# Altium schematic symbol library chips.SchLib: 47 symbols
Pins are listed as number, name and electrical type; pins without a type are passive.

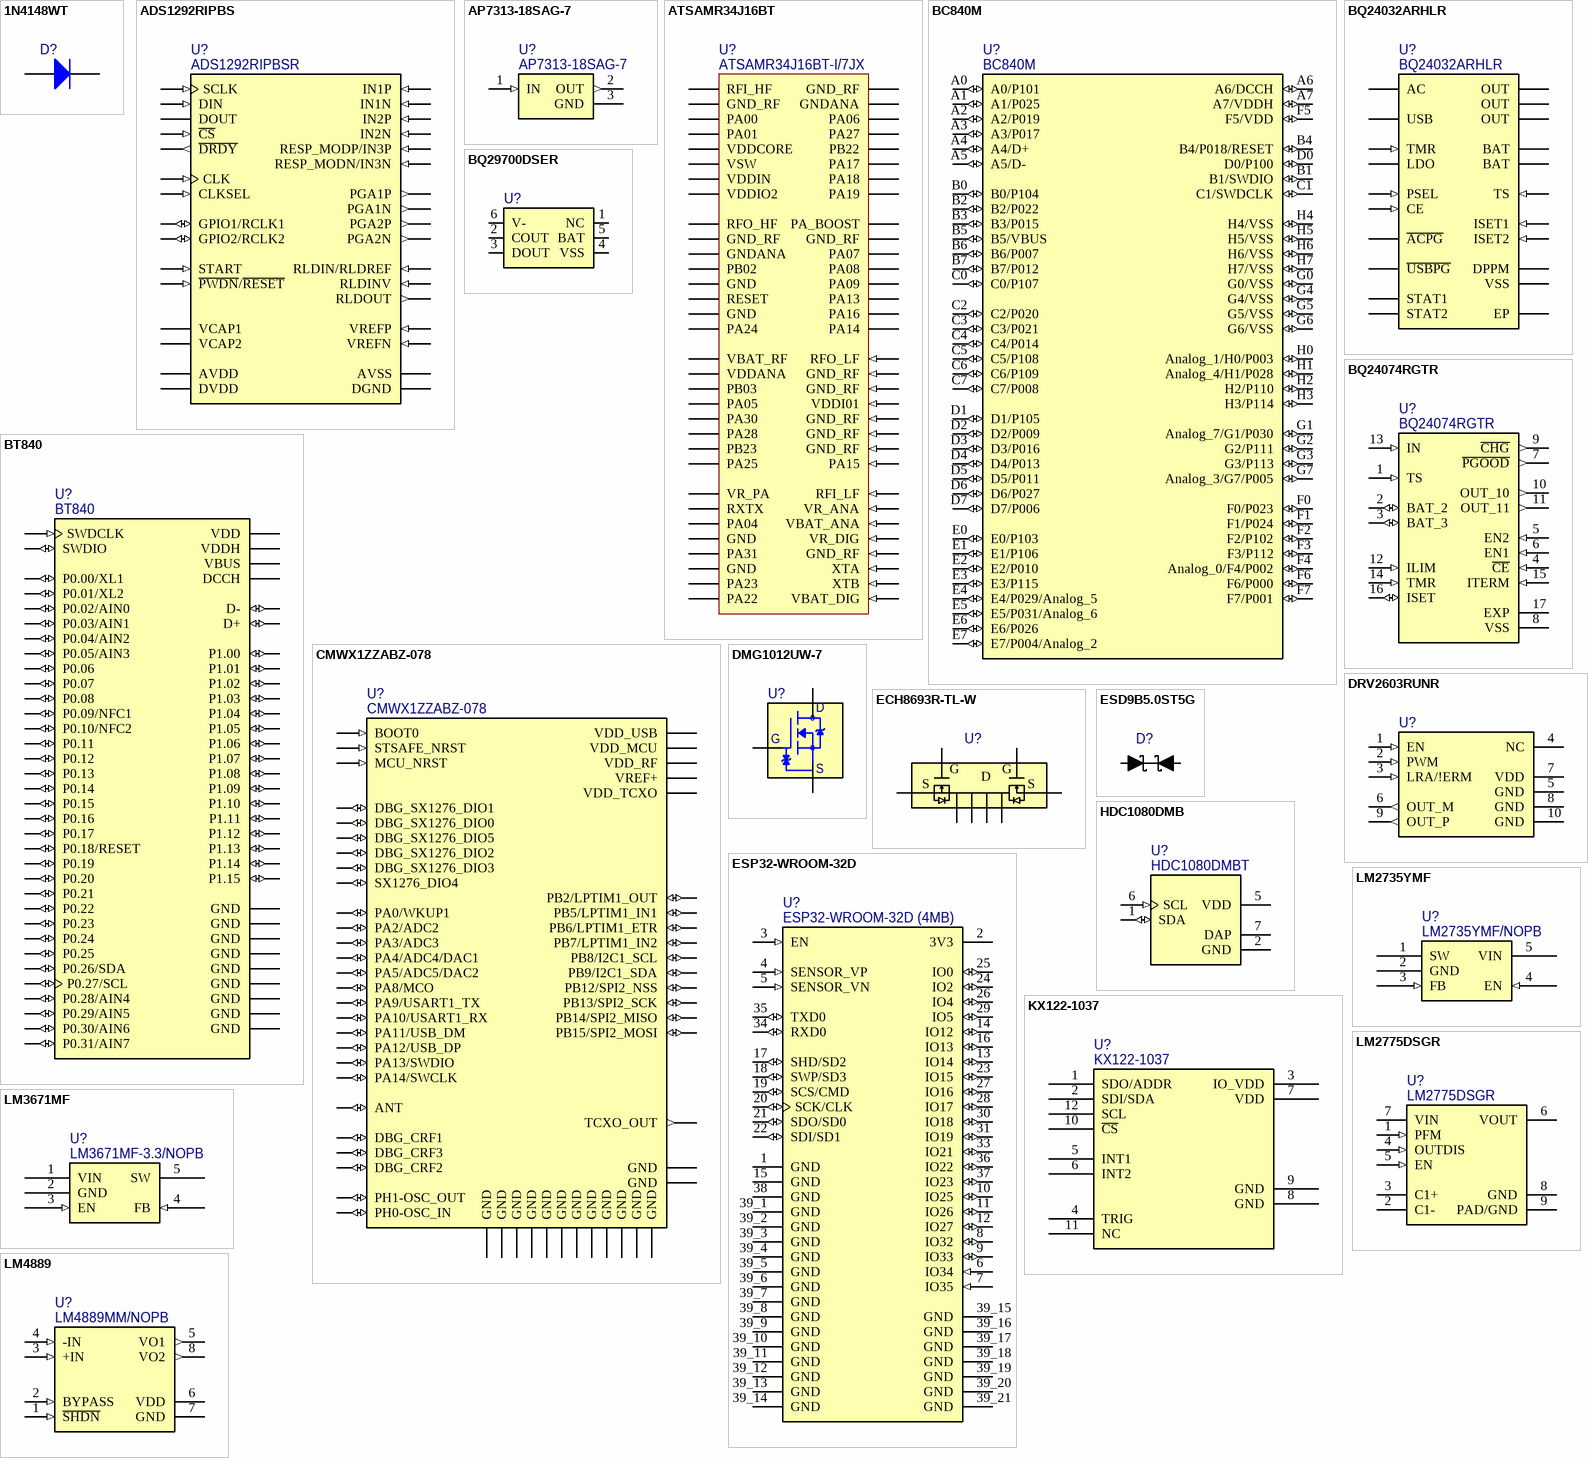
[diagram p0: symbols 1N4148WT to LM4889]

## 1N4148WT
designator D?
DIODE GEN PURP 100V 150MA SOD123; Manufacturer: Fairchild Semiconductor; Manufacturer Part Number: 1N4148W-TP; zz Package: SOD-523F-2; ComponentLink1Description: Manufacturer URL; ComponentLink2URL: http://www.fairchildsemi.com/ds/1N/1N4148WT.pdf; ComponentLink2Description: Datasheet; ComponentLink1URL: http://www.fairchildsemi.com/; Link: https://www.digikey.co.uk/product-detail/en/micro-commercial-co/1N4148W-TP/1N4148WTPMSTR-ND/717196; Supplier Part Number: 1N4148WTPMSTR-ND; Supplier: Digikey; Price 1 Unit USD: 0.14; Price 1000+ Units USD: 0.24
footprint 1n4148wt (SMD, 2-Leads, Body 1.2x0.8mm, Height 0.7mm)
pins: 1 K, 2 A

## ADS1292RIPBS
designator U?  Manufacturer Part Number: ADS1292RIPBSR
AFE 2 CHAN 24BIT 32TQFP / 2-Channel, 24-Bit ADC with Integrated Respiration Impedance and ECG Front End, -40 to 85 degC, 32-pin QFP (PBS32), Green (RoHS & no Sb/Br); Manufacturer: Texas Instruments; zz Package: 32-TQFP; zz Power Supply Rating: 1.7V to 3.6V; ComponentLink1Description: Manufacturer URL; ComponentLink1URL: http://www.ti.com/; ComponentLink3URL: http://www.ti.com/lit/ml/mpqf027a/mpqf027a.pdf; ComponentLink2Description: Datasheet; ComponentLink2URL: http://www.ti.com/general/docs/lit/getliterature.tsp?genericPartNumber=ADS1292R&fileType=pdf; ComponentLink3Description: Package Specification; Supplier Part Number: 296-30389-1-ND; Supplier: Digikey; Price 1000+ Units USD: 5.76; Price 1 Unit USD: 10.68; Link: https://www.digikey.com/product-detail/en/texas-instruments/ADS1292RIPBSR/296-30389-1-ND/3188671
footprint ADS1292R (QFP, 32-Leads, Body 5x5mm, Pitch 0.5mm, IPC High Density)
pins: 1 PGA1N (out) "PGA1 inverting output", 2 PGA1P (out) "PGA1 noninverting output", 3 IN1N (in) "Differential analog negative input 1", 4 IN1P (in) "Differential analog positive input 1", 5 IN2N (in) "Differential analog negative input 2", 6 IN2P (in) "Differential analog positive input 2", 7 PGA2N (out) "PGA2 inverting output", 8 PGA2P (out) "PGA2 noninverting output", 9 VREFP (in) "Positive reference voltage", 10 VREFN (in) "Negative reference voltage; must be connected to AVSS", 11 VCAP1 "Analog bypass capacitor", 12 AVDD (power) "Analog supply", 13 AVSS (power) "Analog ground", 14 CLKSEL (in) "Master clock select", 15 ~{PWDN}/~{RESET} (in) "Power-down or system reset; active low", 16 START (in) "Start conversion", 17 CLK (in) "Master clock input", 18 ~{CS} (in) "Chip select", 19 DIN (in) "SPI data in", 20 SCLK (in) "SPI clock", 21 DOUT (hiz) "SPI data out", 22 ~{DRDY} (out) "Data ready; active low", 23 DVDD (power) "Digital power supply", 24 DGND (power) "Digital ground", 25 GPIO2/RCLK2 (io) "General-purpose I/O 2 or resp clock 2 (ADS1292R)", 26 GPIO1/RCLK1 (io) "General-purpose I/O 1 or resp clock 1 (ADS1292R)", 27 VCAP2 "Analog bypass capacitor", 28 RLDINV (in) "Right leg drive inverting input; connect to AVDD if not used", 29 RLDIN/RLDREF (in) "Right leg drive input to MUX or RLD amplifier noninverting input; connect to AVDD if not used", 30 RLDOUT (out) "Right leg drive output", 31 RESP_MODP/IN3P (in) "P-side respiration excitation signal for respiration or auxiliary input 3P", 32 RESP_MODN/IN3N (in) "N-side respiration excitation signal for respiration or auxiliary input 3N"

## AP7313-18SAG-7
designator U?  Manufacturer Part Number: AP7313-18SAG-7
IC REG LINEAR 1.8V 150MA SOT23-3; Manufacturer: Diodes Incorporated; ComponentLink1Description: Manufacturer URL; ComponentLink2Description: Datasheet; Link: https://www.digikey.com/en/products/detail/diodes-incorporated/AP7313-18SAG-7/2270804
footprint AP7313-18SAG-7 (IC REG LINEAR 1.8V 150MA SOT23-3)
pins: 1 IN (in), 2 OUT (out), 3 GND (power)

## ATSAMR34J16BT
designator U?  Manufacturer Part Number: ATSAMR34J16BT-I/7JX
RF TXRX+MCU 802.15.4 64TFBGA; Manufacturer: Microchip Technology; zz Package: 64-TFBGA; ComponentLink1Description: Manufacturer URL; ComponentLink1URL: http://www.ti.com/; ComponentLink3URL: http://www.ti.com/lit/ml/mpqf027a/mpqf027a.pdf; ComponentLink2Description: Datasheet; ComponentLink2URL: http://www.ti.com/general/docs/lit/getliterature.tsp?genericPartNumber=ADS1292R&fileType=pdf; ComponentLink3Description: Package Specification; Supplier Part Number: ATSAMR34J16BT-I/7JXCT-ND; Supplier: Digikey; Price 1000+ Units USD: 5.01; Price 1 Unit USD: 5.15; Link: https://www.digikey.com/product-detail/en/microchip-technology/ATSAMR34J16BT-I-7JX/ATSAMR34J16BT-I-7JXCT-ND/9739172
footprint ATSAMR34J16BT (IC RF TXRX+MCU 802.15.4 64TFBGA)
pins: A1 RFI_HF, A2 GND_RF, A3 PA00, A4 PA01, A5 VDDCORE, A6 VSW, A7 VDDIN, A8 VDDIO2, B1 RFO_HF, B2 GND_RF, B3 GNDANA, B4 PB02, B5 GND, B6 RESET, B7 GND, B8 PA24, C1 VBAT_RF, C2 VDDANA, C3 PB03, C4 PA05, C5 PA30, C6 PA28, C7 PB23, C8 PA25, D1 VR_PA, D2 RXTX, D3 PA04, D4 GND, D5 PA31, D6 GND, D7 PA23, D8 PA22, E1 GND_RF, E2 GNDANA, E3 PA06, E4 PA27, E5 PB22, E6 PA17, E7 PA18, E8 PA19, F1 PA_BOOST, F2 GND_RF, F3 PA07, F4 PA08, F5 PA09, F6 PA13, F7 PA16, F8 PA14, G1 RFO_LF (in), G2 GND_RF (in), G3 GND_RF (in), G4 VDDI01 (in), G5 GND_RF (in), G6 GND_RF (in), G7 GND_RF (in), G8 PA15 (in), H1 RFI_LF (in), H2 VR_ANA (in), H3 VBAT_ANA (in), H4 VR_DIG (in), H5 GND_RF (in), H6 XTA (in), H7 XTB (in), H8 VBAT_DIG (in)

## BC840M
designator U?  Manufacturer Part Number: BC840M
BLUETOOTH MODULE FANSTEL; Link: https://www.fanstel.com/bc840m-compact-nrf52840-module; Manufacturer: Fanstel; Supplier: Fanster; Supplier Part Number: BC840M; Price 1000+ Units USD: 7.96; Price 1 Unit USD: 11.94; zz Datasheet URL: https://static1.squarespace.com/static/561459a2e4b0b39f5cefa12e/t/5caa2b41ec212d909815f277/1554656071073/BlueNor_BC840_datasheets.pdf
footprint BC840M
pins: A0 A0/P101 (io), A1 A1/P025 (io), A2 A2/P019 (io), A3 A3/P017 (io), A4 A4/D+ (io), A5 A5/D- (io), A6 A6/DCCH (io), A7 A7/VDDH (io), B0 B0/P104 (io), B1 B1/SWDIO (io), B2 B2/P022 (io), B3 B3/P015 (io), B4 B4/P018/RESET (io), B5 B5/VBUS (io), B6 B6/P007 (io), B7 B7/P012 (io), C0 C0/P107 (io), C1 C1/SWDCLK (io), C2 C2/P020 (io), C3 C3/P021 (io), C4 C4/P014 (io), C5 C5/P108 (io), C6 C6/P109 (io), C7 C7/P008 (io), D0 D0/P100 (io), D1 D1/P105 (io), D2 D2/P009 (io), D3 D3/P016 (io), D4 D4/P013 (io), D5 D5/P011 (io), D6 D6/P027 (io), D7 D7/P006 (io), E0 E0/P103 (io), E1 E1/P106 (io), E2 E2/P010 (io), E3 E3/P115 (io), E4 E4/P029/Analog_5 (io), E5 E5/P031/Analog_6 (io), E6 E6/P026 (io), E7 E7/P004/Analog_2 (io), F0 F0/P023 (io), F1 F1/P024 (io), F2 F2/P102 (io), F3 F3/P112 (io), F4 Analog_0/F4/P002 (io), F5 F5/VDD (io), F6 F6/P000 (io), F7 F7/P001 (io), G0 G0/VSS (io), G1 Analog_7/G1/P030 (io), G2 G2/P111 (io), G3 G3/P113 (io), G4 G4/VSS (io), G5 G5/VSS (io), G6 G6/VSS (io), G7 Analog_3/G7/P005 (io), H0 Analog_1/H0/P003 (io), H1 Analog_4/H1/P028 (io), H2 H2/P110 (io), H3 H3/P114 (io), H4 H4/VSS (io), H5 H5/VSS (io), H6 H6/VSS (io), H7 H7/VSS (io)

## BQ24032ARHLR
designator U?  Manufacturer Part Number: BQ24032ARHLR
BATT LI-ON LINEAR CHRG MGMT 20-QFN / Dual Input Li-Ion Charger with Dynamic Power Path, Output regulated to 4.4 V, Vbat 4.2 V, 4.3 V, -40 to 85 degC, 20-pin QFN (RHL), Green (RoHS & no Sb/Br); Manufacturer: Texas Instruments; zz Power Supply Rating: up to 16V; zz Package: 20-VFQFN; ComponentLink1Description: Datasheet; ComponentLink1URL: http://www.ti.com/general/docs/lit/getliterature.tsp?genericPartNumber=BQ24032A&fileType=pdf; Supplier Part Number: 296-18285-1-ND; Supplier: Digikey; Price 1000+ Units USD: 2.10; Price 1 Unit USD: 4.32; Link: https://www.digikey.com/product-detail/en/texas-instruments/BQ24032ARHLR/296-18285-1-ND/807616
footprint RHL0020A_V (QFN, 20-Leads, Body 4.5x3.5mm, Pitch 0.5mm, Thermal Pad 3.05x2.05mm, TI Recommended)
pins: 1 LDO (power) "3.3-V LDO regulator", 2 STAT1 (oc) "Charge status output 1 (open-drain)", 3 STAT2 (oc) "Charge status output 2 (open-drain)", 4 AC (power) "Charge input voltage from AC adapter", 5 BAT (power) "Battery input and output.", 6 BAT (power) "Battery input and output.", 7 ISET2 (in) "Charge current set point for USB port. (High = 500 mA, Low = 100 mA)", 8 PSEL (in) "Power source selection input (Low for USB, High for AC)", 9 CE (in) "Chip enable input (active high)", 10 ISET1 (in) "Charge current set point for AC input and precharge and termination set point for both AC and USB", 11 VSS (power) "Ground input (the thermal pad on the underside of the package) There is an internal electrical connection between the exposed thermal pad and VSS pin of the device. The exposed thermal pad must be connected to the same (See Datasheet)", 12 TS (in) "Temperature sense input", 13 DPPM "Dynamic power-path management set point (account for scale factor)", 14 TMR (in) "Timer program input programmed by resistor. Disable fast-charge safety timer and termination by tying TMR to LDO.", 15 OUT (power) "Output terminal to the system", 16 OUT (power) "Output terminal to the system", 17 OUT (power) "Output terminal to the system", 18 ~{ACPG} (oc) "AC power-good status output (open-drain).", 19 ~{USBPG} (oc) "USB power-good status output (open-drain).", 20 USB (power) "USB charge input voltage", 21 EP "Exposed Thermal Pad"

## BQ24074RGTR
designator U?  Manufacturer Part Number: BQ24074RGTR
BATT LI-ION CHARGE MGMT 16-QFN; Manufacturer: Texas Instruments; ComponentLink1Description: Manufacturer URL; ComponentLink2Description: Datasheet; Link: https://www.digikey.com/product-detail/en/texas-instruments/BQ24074RGTR/296-38873-1-ND/5142985; Supplier Part Number: 296-38873-1-ND; Supplier: Digikey; Price 1000+ Units USD: 1.01; Price 1 Unit USD: 2.21
footprint BATT_CHARG_BQ24074RGTR (IC LI-ION CHARGE MGMT 16-QFN)
pins: 1 TS (in), 2 BAT_2 (io), 3 BAT_3 (io), 4 ~{CE} (in), 5 EN2 (in), 6 EN1 (in), 7 ~{PGOOD} (out), 8 VSS (power), 9 ~{CHG} (out), 10 OUT_10 (out), 11 OUT_11 (out), 12 ILIM (in), 13 IN (in), 14 TMR (in), 15 ITERM (in), 16 ISET (io), 17 EXP (power)

## BQ29700DSER
designator U?
BATT LITHIUM BATT PROTECT 6-SON; Manufacturer: Texas Instruments; Manufacturer Part Number: BQ29700DSER; ComponentLink1Description: Manufacturer URL; ComponentLink2Description: Datasheet; Link: https://www.digikey.com/product-detail/en/texas-instruments/BQ29700DSER/296-43985-1-ND/5973209; Supplier Part Number: 296-43985-1-ND; Supplier: Digikey; Price 1000+ Units USD: 0.21; Price 1 Unit USD: 0.56
footprint BATT_PROTEC_BQ29700DSER (IC LITHIUM BATT PROTECT 6-SON)
pins: 1 NC, 2 COUT, 3 DOUT, 4 VSS, 5 BAT, 6 V-

## BT840
designator U?  Manufacturer Part Number: BT840
BLUETOOTH MODULE FANSTEL  BT840; Link: https://www.digikey.com/product-detail/en/fanstel-corp/BT840/1914-1018-1-ND/8323671; Manufacturer: Fanstel; Supplier: Digikey; Supplier Part Number: 1914-1018-1-ND; Price 1000+ Units USD: 6.56; Price 1 Unit USD: 12.06; zz Datasheet URL: http://www.fanstel.com/s/BlueNor_BT840F_datasheets.pdf
footprint BT840 (Bluetooth module nordic)
pins: 1 P0.26/SDA (io), 2 P0.27/SCL (io), 3 P0.00/XL1 (io), 4 P0.01/XL2 (io), 5 P0.02/AIN0 (io), 6 P0.03/AIN1 (io), 7 P0.09/NFC1 (io), 8 P0.10/NFC2 (io), 9 VDD (power), 10 GND (power), 11 P0.11 (io), 12 P1.00 (io), 13 P0.13 (io), 14 P0.18/RESET (io), 15 SWDCLK (in), 16 SWDIO (io), A0 GND (power), A1 P0.28/AIN4 (io), A2 P0.29/AIN5 (io), A3 P0.04/AIN2 (io), A4 P0.05/AIN3 (io), A5 P0.07 (io), A6 P1.08 (io), B0 GND (power), B1 P0.25 (io), B2 P0.30/AIN6 (io), B3 P0.31/AIN7 (io), B4 P0.06 (io), B5 P0.08 (io), B6 P1.03 (io), C0 GND (power), C1 P0.24 (io), C2 P0.22 (io), C3 P0.17 (io), C4 P0.15 (io), C5 P1.02 (io), C6 P1.04 (io), D0 GND (power), D1 P0.23 (io), D2 P0.19 (io), D3 P0.16 (io), D4 P0.14 (io), D5 P1.01 (io), D6 P1.05 (io), E0 P1.07 (io), E1 P0.20 (io), E2 P0.21 (io), E3 P1.09 (io), E4 D+ (io), E5 D- (io), E6 P0.12 (io), F0 GND (power), F1 GND (power), F2 GND (power), F3 GND (power), F4 VDDH (power), F5 DCCH (power), F6 VBUS (power), Z0 P1.11 (io), Z1 P1.12 (io), Z2 P1.13 (io), Z3 P1.14 (io), Z4 P1.15 (io), Z5 P1.10 (io), Z6 P1.06 (io)

## CMWX1ZZABZ-078
designator U?  Manufacturer Part Number: CMWX1ZZABZ-078
LORA MODULE / Murata RF MODULE 860-930MHz 12.5x11.6x1.76mm 3.3Vdc; Link: https://www.digikey.co.uk/product-detail/en/murata-electronics/CMWX1ZZABZ-078/490-16143-1-ND/6834151?utm_source=snapeda&utm_medium=aggregator&utm_campaign=symbol; Manufacturer: Murata; Supplier: Digikey; Supplier Part Number: 490-16143-1-ND; Price 1 Unit USD: 17.82; Price 1000+ Units USD: 10.75
footprint CMWX1ZZABZ-078 (LORA Module Murata)
pins: 1 PA12/USB_DP (io), 2 PA11/USB_DM (io), 3 GND, 4 VDD_USB (power), 5 VDD_MCU (power), 6 VDD_RF (power), 7 GND, 8 DBG_SX1276_DIO2 (io), 9 DBG_SX1276_DIO3 (io), 10 SX1276_DIO4 (io), 11 DBG_SX1276_DIO5 (io), 12 DBG_SX1276_DIO1 (io), 13 DBG_SX1276_DIO0 (io), 14 PB15/SPI2_MOSI (io), 15 PB14/SPI2_MISO (io), 16 PB13/SPI2_SCK (io), 17 PB12/SPI2_NSS (io), 18 PA10/USART1_RX (io), 19 PA9/USART1_TX (io), 20 PA8/MCO (io), 21 PA5/ADC5/DAC2 (io), 22 PA4/ADC4/DAC1 (io), 23 PA3/ADC3 (io), 24 PA2/ADC2 (io), 25 GND, 26 ANT (io), 27 GND, 28 DBG_CRF1 (io), 29 DBG_CRF3 (io), 30 DBG_CRF2 (io), 31 STSAFE_NRST (in), 32 VREF+ (power), 33 PA0/WKUP1 (io), 34 MCU_NRST (in), 35 PB8/I2C1_SCL (io), 36 PB9/I2C1_SDA (io), 37 PB2/LPTIM1_OUT (io), 38 PB7/LPTIM1_IN2 (io), 39 PB6/LPTIM1_ETR (io), 40 PB5/LPTIM1_IN1 (io), 41 PA13/SWDIO (io), 42 PA14/SWCLK (io), 43 BOOT0 (in), 44 GND, 45 PH1-OSC_OUT (io), 46 PH0-OSC_IN (io), 47 TCXO_OUT (out), 48 VDD_TCXO (power), 49 GND, 50 GND, 51 GND, 52 GND, 53 GND, 54 GND, 55 GND, 56 GND, 57 GND

## DMG1012UW-7
designator U?
MOSFET Logi level N-CH 20V 1A SOT323; Manufacturer: Diodes Incorporated; Manufacturer Part Number: DMG1012UW-7; ComponentLink1Description: Manufacturer URL; ComponentLink2Description: Datasheet; Link: https://www.digikey.com/en/products/detail/diodes-incorporated/DMG1012UW-7/2183239; Supplier Part Number: DMG1012UW-7DICT-ND; Supplier: Digikey; Price 1000+ Units USD: 0.05; Price 1 Unit USD: 0.33
footprint MOSFET-DMG1012UW-SOT323 (MOSFET N-CH 20V 1A SOT323)
pins: 1 D, 2 G, 3 S

## DRV2603RUNR
designator U?
MOTOR DRIVER 2.5V-5.2V 10QFN; Manufacturer: Texas Instruments; Manufacturer Part Number: DRV2603RUNR; ComponentLink1Description: Manufacturer URL; ComponentLink2Description: Datasheet; Link: https://www.digikey.com/product-detail/en/texas-instruments/DRV2603RUNR/296-30613-1-ND/3487222; Supplier Part Number: 296-30613-1-ND; Supplier: Digikey; Price 1000+ Units USD: 0.55; Price 1 Unit USD: 1.31
footprint MOT_DRV_DRV2603RUNR (IC MOTOR DRIVER 2.5V-5.2V 10QFN)
pins: 1 EN (in), 2 PWM (in), 3 LRA/!ERM (in), 4 NC (power), 5 GND (power), 6 OUT_M (out), 7 VDD (power), 8 GND (power), 9 OUT_P (out), 10 GND (power)

## ECH8693R-TL-W
designator U?
MOSFET 2N-CH 24V 14A SOT-28; Manufacturer: ON Semiconductor; Manufacturer Part Number: ECH8693R-TL-W; ComponentLink1Description: Manufacturer URL; ComponentLink2Description: Datasheet; Link: https://www.digikey.com/product-detail/en/on-semiconductor/ECH8693R-TL-W/ECH8693R-TL-WOSCT-ND/5969317; Supplier Part Number: ECH8693R-TL-WOSCT-ND; Supplier: Digikey; Price 1000+ Units USD: 0.53; Price 1 Unit USD: 0.20
footprint MOSFET_2CHAN_ECH8693R-TL-W (MOSFET 2N-CH 24V 14A SOT-28)
pins: 1 S1, 2 G1, 3 S2, 4 G2, 5 D, 6 D, 7 D, 8 D
text: G; S

## ESD9B5.0ST5G
designator D?
TVS DIODE 5V SOD923; Manufacturer: ON Semiconductor; Manufacturer Part Number: ESD9B5.0ST5G; ComponentLink1Description: Manufacturer URL; ComponentLink2Description: Datasheet; Link: https://www.digikey.com/product-detail/en/on-semiconductor/ESD9B5-0ST5G/ESD9B5-0ST5GOSCT-ND/1646497; Supplier Part Number: ESD9B5.0ST5GOSCT-ND; Supplier: Digikey; Price 1000+ Units USD: 0.02; Price 1 Unit USD: 0.13
footprint Diode_ESD9B5.0ST5G (TVS DIODE 5V SOD923)
pins: 1, 2

## ESP32-WROOM-32D
designator U?  Manufacturer Part Number: ESP32-WROOM-32D (4MB)
ESP32-WROOM-32D Wifi/Bluetooth Module; Manufacturer: Espressif Systems; ComponentLink1Description: Manufacturer URL; ComponentLink2Description: Datasheet; Link: https://www.digikey.com/en/products/detail/espressif-systems/ESP32-WROOM-32D-4MB/9381716; Supplier Part Number: 1965-ESP32-WROOM-32D(4MB)CT-ND; Supplier: Digikey; Price 1000+ Units USD: 3.8; Price 1 Unit USD: 2.4
pins: 1 GND (power), 2 3V3 (power), 3 EN (in), 4 SENSOR_VP (in), 5 SENSOR_VN (in), 6 IO34 (in), 7 IO35 (in), 8 IO32 (io), 9 IO33 (io), 10 IO25 (io), 11 IO26 (io), 12 IO27 (io), 13 IO14 (io), 14 IO12 (io), 15 GND (power), 16 IO13 (io), 17 SHD/SD2 (io), 18 SWP/SD3 (io), 19 SCS/CMD (io), 20 SCK/CLK (io), 21 SDO/SD0 (io), 22 SDI/SD1 (io), 23 IO15 (io), 24 IO2 (io), 25 IO0 (io), 26 IO4 (io), 27 IO16 (io), 28 IO17 (io), 29 IO5 (io), 30 IO18 (io), 31 IO19 (io), 33 IO21 (io), 34 RXD0 (io), 35 TXD0 (io), 36 IO22 (io), 37 IO23 (io), 38 GND (power), 39_1 GND (power), 39_2 GND (power), 39_3 GND (power), 39_4 GND (power), 39_5 GND (power), 39_6 GND (power), 39_7 GND (power), 39_8 GND (power), 39_9 GND (power), 39_10 GND (power), 39_11 GND (power), 39_12 GND (power), 39_13 GND (power), 39_14 GND (power), 39_15 GND (power), 39_16 GND (power), 39_17 GND (power), 39_18 GND (power), 39_19 GND (power), 39_20 GND (power), 39_21 GND (power)

## HDC1080DMB
designator U?  Manufacturer Part Number: HDC1080DMBT
SENSOR HUMI/TEMP 3.3V I2C 2% SMD; Manufacturer: Texas Instruments; Supplier Part Number: 296-43864-6-ND; Link: https://www.digikey.com/product-detail/en/texas-instruments/HDC1080DMBT/296-43864-6-ND/5878616; Supplier: Digikey; Price 1 Unit USD: 4.54; Price 1000+ Units USD: 2.06
footprint HDC1080DMBY (Humidity Temp sensor)
pins: 1 SDA (io), 2 GND (power), 5 VDD (power), 6 SCL (in), 7 DAP (power)

## KX122-1037
designator U?  Manufacturer Part Number: KX122-1037
ACCELEROMETER 2-8G I2C/SPI 12LGA; Manufacturer: Kionix Inc.; ComponentLink1Description: Manufacturer URL; ComponentLink2Description: Datasheet; Link: https://www.digikey.com/product-detail/en/kionix-inc/KX122-1037/1191-1041-1-ND/5343875; Supplier Part Number: 1191-1041-1-ND; Supplier: Digikey; Price 1 Unit USD: 2.01; Price 1000+ Units USD: 0.72
footprint KX122-1037
pins: 1 SDO/ADDR, 2 SDI/SDA, 3 IO_VDD, 4 TRIG, 5 INT1, 6 INT2, 7 VDD, 8 GND, 9 GND, 10 ~{CS}, 11 NC, 12 SCL

## LM2735YMF
designator U?  Manufacturer Part Number: LM2735YMF/NOPB
REG MULT CONFG ADJ 2.1A SOT23; Manufacturer: Texas Instruments; ComponentLink1Description: Manufacturer URL; ComponentLink2Description: Datasheet; Link: https://www.digikey.com/product-detail/en/texas-instruments/LM2735YMF-NOPB/LM2735YMF-NOPBCT-ND/1836108; Supplier Part Number: LM2735YMF/NOPBCT-ND; Supplier: Digikey; Price 1000+ Units USD: 1.11; Price 1 Unit USD: 1.93
footprint SOT-23
pins: 1 SW (power), 2 GND (power), 3 FB (in), 4 EN (in), 5 VIN (power)

## LM2775DSGR
designator U?  Manufacturer Part Number: LM2775DSGR
REG CHARG PUMP 5V 200MA 8WSON; Manufacturer: Texas Instruments; ComponentLink1Description: Manufacturer URL; ComponentLink2Description: Datasheet; Link: https://www.digikey.co.uk/product-detail/en/texas-instruments/LM2775DSGR/296-46107-2-ND/5438061; Supplier Part Number: 296-46107-2-ND; Supplier: Digikey; Price 1000+ Units USD: 0.52; Price 1 Unit USD: 1.23
footprint LM2775DSGR
pins: 1 PFM (in), 2 C1- (power), 3 C1+ (power), 4 OUTDIS (in), 5 EN (in), 6 VOUT (power), 7 VIN (power), 8 GND (power), 9 PAD/GND (power)

## LM3671MF
designator U?  Manufacturer Part Number: LM3671MF-3.3/NOPB
REG BUCK 3.3V 600MA SOT23-5; Manufacturer: Texas Instruments; ComponentLink1Description: Manufacturer URL; ComponentLink2Description: Datasheet; Link: https://www.digikey.com/product-detail/en/texas-instruments/LM3671MF-3-3-NOPB/LM3671MF-3-3-NOPBCT-ND/1590190; Supplier Part Number: LM3671MF-3.3/NOPBCT-ND; Supplier: Digikey; Price 1000+ Units USD: 0.72; Price 1 Unit USD: 1.32
footprint SOT-23
pins: 1 VIN (power), 2 GND (power), 3 EN (in), 4 FB (in), 5 SW (power)

## LM4889
designator U?  Manufacturer Part Number: LM4889MM/NOPB
IC AMP CLASS AB MONO 1W 8VSSOP; Manufacturer: Texas Instruments; ComponentLink1Description: Manufacturer URL; ComponentLink2Description: Datasheet; Link: https://www.digikey.com/en/products/detail/texas-instruments/LM4889MM-NOPB/947616; Supplier Part Number: LM4889MM/NOPBCT-ND; Supplier: Digikey; Price 1000+ Units USD: 0.71; Price 1 Unit USD: 1.31
footprint Amp_LM4889MM (IC AMP CLASS AB MONO 1W 8VSSOP)
pins: 1 ~{SHDN} (in), 2 BYPASS (in), 3 +IN (in), 4 -IN (in), 5 VO1 (out), 6 VDD (power), 7 GND (power), 8 VO2 (out)

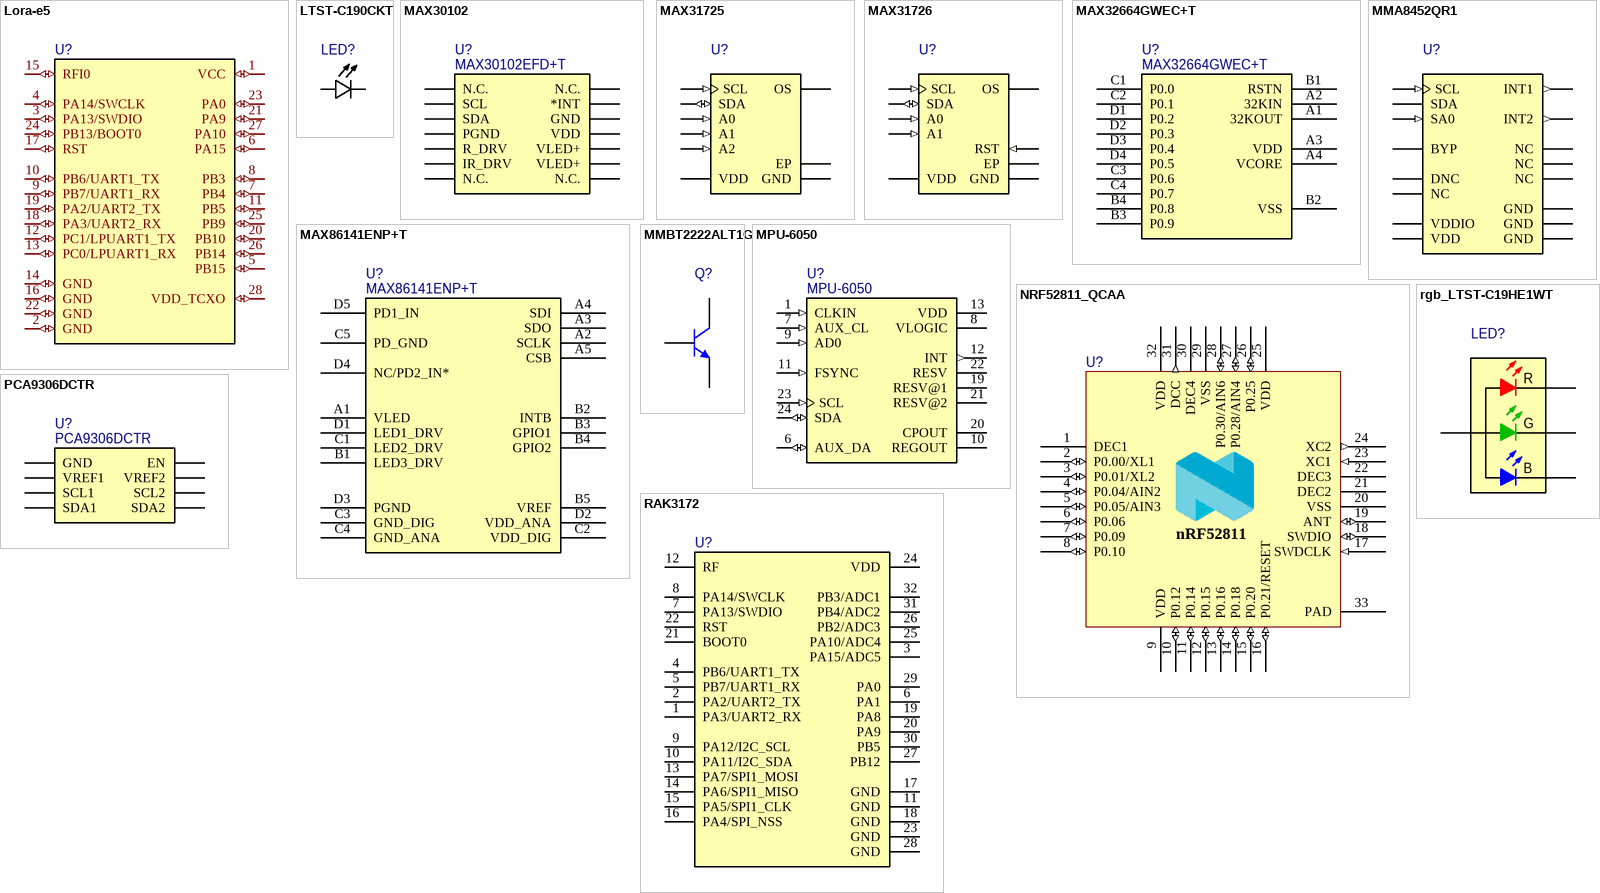
[diagram p1: symbols Lora-e5 to rgb_LTST-C19HE1WT]

## Lora-e5
designator U?
LoraWan Modules ,LoRa-E5 STM32WLE5JC Module, embedded SX126X and MCU for LoRaWAN Wireless Sensor Network & IoT devices - EU868 & US915; Manufacturer: Seeed Studio; Manufacturer Part Number: 317990687; ComponentLink1Description: Manufacturer URL; ComponentLink2Description: Datasheet; Link: https://www.mouser.com/ProductDetail/Seeed-Studio/317990687?qs=hd1VzrDQEGhZOj13wvzSLA%3D%3D; Supplier Part Number: 713-317990687; Supplier: Mouser; Price 1000+ Units USD: 9.90; Price 1 Unit USD: 9.90
footprint Lora-e5 (LoraWan Module  LoRa-E5 STM32WLE5JC Module, embedded SX126X and MCU for LoRaWAN Wireless Sensor Network & IoT devices - EU868 & US915)
pins: 1 VCC (io), 2 GND (io), 3 PA13/SWDIO (io), 4 PA14/SWCLK (io), 5 PB15 (io), 6 PA15 (io), 7 PB4 (io), 8 PB3 (io), 9 PB7/UART1_RX (io), 10 PB6/UART1_TX (io), 11 PB5 (io), 12 PC1/LPUART1_TX (io), 13 PC0/LPUART1_RX (io), 14 GND (io), 15 RFI0 (io), 16 GND (io), 17 RST (io), 18 PA3/UART2_RX (io), 19 PA2/UART2_TX (io), 20 PB10 (io), 21 PA9 (io), 22 GND (io), 23 PA0 (io), 24 PB13/BOOT0 (io), 25 PB9 (io), 26 PB14 (io), 27 PA10 (io), 28 VDD_TCXO (io)

## LTST-C190CKT
designator LED?
LED RED CLEAR CHIP SMD; Manufacturer: Lite-On Inc.; Manufacturer Part Number: LTST-C190CKT; zz Package: 0603 Lite-On; Supplier Part Number: 160-1181-1-ND; Link: https://www.digikey.co.uk/product-detail/en/lite-on-inc/LTST-C190CKT/160-1181-1-ND/269253?utm_source=snapeda&utm_medium=aggregator&utm_campaign=symbol; Supplier: Digikey; Price 1 Unit USD: 0.05; Price 1000+ Units USD: 0.31
footprint LTST-C190CKT (LED RED 0603)
pins: A, C

## MAX30102
designator U?  Manufacturer Part Number: MAX30102EFD+T
INTEGRATED OPTICAL SENSOR; Manufacturer: Maxim Integrated; ComponentLink2URL: http://datasheets.maximintegrated.com/en/ds/MAX31725.pdf; ComponentLink2Description: Datasheet; ComponentLink3URL: http://pdfserv.maximintegrated.com/package_dwgs/21-0137.PDF; ComponentLink3Description: Package Specification; ComponentLink1URL: http://www.maximintegrated.com/; ComponentLink1Description: Manufacturer URL; Supplier: Digikey; Price 1 Unit USD: 8.6; Supplier Part Number: MAX30102EFD+TCT-ND; Link: https://www.digikey.com/product-detail/en/maxim-integrated/MAX30102EFD-T/MAX30102EFD-TCT-ND/6568909; Price 1000+ Units USD: 4.68
footprint MAX30102 (Optical HR / SPO2 sensor)
footprint MAX30102_Large (Optical HR / SPO2 sensor)
pins: 1 N.C., 2 SCL, 3 SDA, 4 PGND, 5 R_DRV, 6 IR_DRV, 7 N.C., 8 N.C., 9 VLED+, 10 VLED+, 11 VDD (power), 12 GND, 13 *INT, 14 N.C.

## MAX31725
designator U?
SENSOR DIGITAL -55C-150C 8TDFN / + / -0.5 degC Local I2C Temperature Sensor, 16 Bits Temperature Resolution, -55 to 150 degC, 8-Pin SON (T833+2), Pb-Free; Manufacturer: Maxim Integrated; Manufacturer Part Number: MAX31725MTA+; ComponentLink2URL: http://datasheets.maximintegrated.com/en/ds/MAX31725.pdf; ComponentLink2Description: Datasheet; ComponentLink3URL: http://pdfserv.maximintegrated.com/package_dwgs/21-0137.PDF; ComponentLink3Description: Package Specification; ComponentLink1URL: http://www.maximintegrated.com/; ComponentLink1Description: Manufacturer URL; Supplier: Digikey; Price 1 Unit USD: 1.66; Supplier Part Number: MAX31725MTA+-ND; Link: https://www.digikey.co.uk/product-detail/en/maxim-integrated/MAX31725MTA/MAX31725MTA-ND/3737668; Price 1000+ Units USD: 1.32
footprint max31725 (SON, 8-Leads, Body 3x3 mm, Pitch 0.65mm, Thermal Pad 2.3x1.5mm)
pins: 1 SDA (io) "Serial-Data Input/Output Line. Open drain. Connect SDA to a pullup resistor. High impedance for supply voltages from 0 to 3.7V.", 2 SCL (in) "Serial-Data Clock Input. Open drain. Connect SCL to a pullup resistor. High impedance for supply voltages from 0 to 3.7V.", 3 OS (oc) "Overtemperature Shutdown Output. Open drain. Connect OS to a pullup resistor.", 4 GND (power) "Ground", 5 A2 (in) "I2C Slave Address Input. Connect A2 to GND or VDD to set the desired I2C bus address. Do not leave unconnected (Table 1).", 6 A1 (in) "I2C Slave Address Input. Connect A1 to GND, VDD, SDA, or SCL to set the desired I2C bus address. Do not leave unconnected (Table 1). High impedance for supply voltages from 0 to 3.7V.", 7 A0 (in) "I2C Slave Address Input. Connect A0 to GND, VDD, SDA, or SCL to set the desired I2C bus address. Do not leave unconnected (Table 1). High impedance for supply voltages from 0 to 3.7V.", 8 VDD (power) "Positive Supply Voltage Input. Bypass to GND with a 0.1uF bypass capacitor.", 9 EP (power) "Exposed Pad (Bottom Side of Package). Connect EP to GND."

## MAX31726
designator U?
SENSOR DIGITAL -55C-150C 8TDFN / + / -0.5 degC Local I2C Temperature Sensor, 16 Bits Temperature Resolution, -55 to 150 degC, 8-Pin SON (T833+2), Pb-Free; Manufacturer: Maxim Integrated; Manufacturer Part Number: MAX31726MTA+; ComponentLink2URL: http://datasheets.maximintegrated.com/en/ds/MAX31725.pdf; ComponentLink2Description: Datasheet; ComponentLink3URL: http://pdfserv.maximintegrated.com/package_dwgs/21-0137.PDF; ComponentLink3Description: Package Specification; ComponentLink1URL: http://www.maximintegrated.com/; ComponentLink1Description: Manufacturer URL; Supplier: Mouser; Price 1 Unit USD: 5.05; Supplier Part Number: 700-MAX31726MTA+; Link: https://www.mouser.com/ProductDetail/Maxim-Integrated/MAX31726MTA%2b?qs=%2FrNExBQRqES5vNE768%252BCQg%3D%3D; Price 1000+ Units USD: 2.92
footprint max31725 (SON, 8-Leads, Body 3x3 mm, Pitch 0.65mm, Thermal Pad 2.3x1.5mm)
pins: 1 SDA (io) "Serial-Data Input/Output Line. Open drain. Connect SDA to a pullup resistor. High impedance for supply voltages from 0 to 3.7V.", 2 SCL (in) "Serial-Data Clock Input. Open drain. Connect SCL to a pullup resistor. High impedance for supply voltages from 0 to 3.7V.", 3 OS (oc) "Overtemperature Shutdown Output. Open drain. Connect OS to a pullup resistor.", 4 GND (power) "Ground", 5 RST (in) "I2C Slave Address Input. Connect A2 to GND or VDD to set the desired I2C bus address. Do not leave unconnected (Table 1).", 6 A1 (in) "I2C Slave Address Input. Connect A1 to GND, VDD, SDA, or SCL to set the desired I2C bus address. Do not leave unconnected (Table 1). High impedance for supply voltages from 0 to 3.7V.", 7 A0 (in) "I2C Slave Address Input. Connect A0 to GND, VDD, SDA, or SCL to set the desired I2C bus address. Do not leave unconnected (Table 1). High impedance for supply voltages from 0 to 3.7V.", 8 VDD (power) "Positive Supply Voltage Input. Bypass to GND with a 0.1uF bypass capacitor.", 9 EP (power) "Exposed Pad (Bottom Side of Package). Connect EP to GND."

## MAX32664GWEC+T
designator U?  Manufacturer Part Number: MAX32664GWEC+T
Biometric Sensors SENSOR HUB W/ SPO2 & HR ALGORITHMS; Manufacturer: Maxim Integrated; ComponentLink1Description: Manufacturer URL; ComponentLink2URL: https://www.mouser.com/datasheet/2/256/MAX32664-1366198.pdf; ComponentLink2Description: Datasheet; ComponentLink1URL: https://www.maximintegrated.com/en/products/interface/sensor-interface/MAX32664.html; Link: https://www.mouser.com/ProductDetail/Maxim-Integrated/MAX32664GWEC%2bT?qs=sGAEpiMZZMsG1k5vdNM%2FczLFAQxG%2F4Sg8ksyvYFPVjc%3D; Supplier Part Number: 700-MAX32664GWEC+T; Supplier: Mouser; Price 1000+ Units USD: 2.5; Price 1 Unit USD: 5.32
footprint WLP16_0.35mm
pins: A1 32KOUT, A2 32KIN, A3 VDD, A4 VCORE, B1 RSTN, B2 VSS, B3 P0.9, B4 P0.8, C1 P0.0, C2 P0.1, C3 P0.6, C4 P0.7, D1 P0.2, D2 P0.3, D3 P0.4, D4 P0.5

## MAX86141ENP+T
designator U?  Manufacturer Part Number: MAX86141ENP+T
SENSOR OXIMETER/HEARTRATE; Manufacturer: Maxim Integrated; ComponentLink1Description: Manufacturer URL; ComponentLink2URL: https://datasheets.maximintegrated.com/en/ds/MAX86140-MAX86141.pdf; ComponentLink2Description: Datasheet; ComponentLink1URL: https://www.maximintegrated.com/en/products/interface/sensor-interface/MAX86141.html; Link: https://www.digikey.com/product-detail/en/maxim-integrated/MAX86141ENP-T/MAX86141ENP-TCT-ND/8535546; Supplier Part Number: MAX86141ENP+TCT-ND; Supplier: Digikey; Price 1000+ Units USD: 4.60; Price 1 Unit USD: 8.12
footprint WLP20_0.4MM
pins: A1 VLED, A2 SCLK, A3 SDO, A4 SDI, A5 CSB, B1 LED3_DRV, B2 INTB, B3 GPIO1, B4 GPIO2, B5 VREF, C1 LED2_DRV, C2 VDD_DIG, C3 GND_DIG, C4 GND_ANA, C5 PD_GND, D1 LED1_DRV, D2 VDD_ANA, D3 PGND, D4 NC/PD2_IN*, D5 PD1_IN

## MMA8452QR1
designator U?
ACCELEROMETER 2-8G I2C 16QFN / 3-Axis, 12-Bit / 8-Bit Digital Acceleromete, 1.95 to 3.6 V, -40 to 85 degC, 16-Pin QFN, RoHS, Tape and Reel; Manufacturer: NXP; Manufacturer Part Number: MMA8452QR1; zz Package: 16-QF0; zz Power Supply: 1.95V to 3.6V; ComponentLink1URL: http://www.nxp.com/; ComponentLink2URL: http://cache.nxp.com/files/sensors/doc/data_sheet/MMA8452Q.pdf; ComponentLink2Description: Datasheet; ComponentLink1Description: Manufacturer URL; Link: https://www.digikey.com/product-detail/en/nxp-usa-inc/MMA8452QR1/MMA8452QR1CT-ND/3524271; Supplier Part Number: MMA8452QR1CT-ND; Supplier: Digikey; Price 1000+ Units USD: 1.06; Price 1 Unit USD: 2.64
footprint MMA8452QR1 (QFN, 16-Leads, Body 3x3mm, Pitch 0.5mm)
pins: 1 VDDIO (power) "Internal power supply (1.62 V to 3.6 V)", 2 BYP "Bypass capacitor (0.1 uF)", 3 DNC "Do not connect to anything, leave pin isolated and floating.", 4 SCL (in) "I2C serial clock, open drain", 5 GND (power) "Connect to ground", 6 SDA "I2C serial data", 7 SA0 (in) "I2C least significant bit of the device I2C address, I2C 7-bit address = 0x1C (SA0 = 0), 0x1D (SA0 = 1).", 8 NC "Internally not connected", 9 INT2 (out) "Inertial interrupt 2, output pin", 10 GND (power) "Connect to ground", 11 INT1 (out) "Inertial interrupt 1, output pin", 12 GND (power) "Connect to ground", 13 NC "Internally not connected", 14 VDD (power) "Power supply (1.95 V to 3.6 V)", 15 NC "Internally not connected", 16 NC "Internally not connected (can be GND or VDD)"

## MMBT2222ALT1G
designator Q?
TRANS NPN 40V 0.6A SOT23 / General Purpose Transistor, NPN Silicon, 3-Pin SOT-23, Pb-Free, Tape and Reel; Manufacturer: ON Semiconductor; Manufacturer Part Number: MMBT2222ALT1G; ComponentLink3URL: http://www.onsemi.cn/pub_link/Collateral/318-08.PDF; ComponentLink1URL: http://www.onsemi.com/; ComponentLink3Description: Package Specification; ComponentLink2Description: Datasheet; ComponentLink2URL: http://www.onsemi.cn/pub_link/Collateral/MMBT2222LT1-D.PDF; ComponentLink1Description: Manufacturer URL; Supplier: Digikey; Price 1000+ Units USD: 0.02; Supplier Part Number: MMBT2222ALT1GOSCT-ND; Price 1 Unit USD: 0.15; Link: https://www.digikey.co.uk/product-detail/en/on-semiconductor/MMBT2222ALT1G/MMBT2222ALT1GOSCT-ND/1139806
footprint ONSC-SOT-23-3-318-08_V (SOT23, 3-Leads, Body 2.92x1.3mm, Pitch 0.95mm)
pins: 1 B, 2 E, 3 C

## MPU-6050
designator U?  Manufacturer Part Number: MPU-6050
IMU ACCEL/GYRO 3-AXIS I2C 24QFN; Manufacturer: TDK InvenSense; ComponentLink1Description: Manufacturer URL; ComponentLink2Description: Datasheet; Link: https://www.digikey.com/en/products/detail/tdk-invensense/MPU-6050/4038009; Supplier Part Number: 1428-1007-1-ND; Supplier: Digikey; Price 1000+ Units USD: 3.70; Price 1 Unit USD: 7.55
footprint MPU6050-ACCELERO-GYRO (IMU ACCEL/GYRO 3-AXIS I2C 24QFN)
pins: 1 CLKIN (in), 6 AUX_DA (io), 7 AUX_CL (in), 8 VLOGIC (power), 9 AD0 (in), 10 REGOUT, 11 FSYNC (in), 12 INT (out), 13 VDD (power), 19 RESV@1, 20 CPOUT, 21 RESV@2, 22 RESV, 23 SCL (in), 24 SDA (io)

## NRF52811_QCAA
designator U?
NRF52811 Nordic Bluetooth 5.1 chip 32 pins QFN32; Manufacturer: Nordic Semiconductor; Manufacturer Part Number: 949-NRF52811-QCAA-R; ComponentLink1Description: Manufacturer URL; ComponentLink2Description: Datasheet; Link: https://eu.mouser.com/ProductDetail/Nordic-Semiconductor/nRF52811-QCAA-R?qs=gZXFycFWdAOUhCgQu7%252B6sA%3D%3D; Supplier Part Number: nRF52811-QCAA-R; Supplier: Mouser; Price 1000+ Units USD: 1.64; Price 1 Unit USD: 3.29
footprint NRF52811_QCAA (Nordic Bluetooth 5.1 chip 32 pins QFN32)
pins: 1 DEC1 (power), 2 P0.00/XL1 (io), 3 P0.01/XL2 (io), 4 P0.04/AIN2 (io), 5 P0.05/AIN3 (io), 6 P0.06 (io), 7 P0.09 (io), 8 P0.10 (io), 9 VDD (power), 10 P0.12 (io), 11 P0.14 (io), 12 P0.15 (io), 13 P0.16 (io), 14 P0.18 (io), 15 P0.20 (io), 16 P0.21/RESET (io), 17 SWDCLK (in), 18 SWDIO (io), 19 ANT (io), 20 VSS (power), 21 DEC2 (power), 22 DEC3 (power), 23 XC1 (in), 24 XC2 (out), 25 VDD (power), 26 P0.25 (io), 27 P0.28/AIN4 (io), 28 P0.30/AIN6 (io), 29 VSS (power), 30 DEC4 (power), 31 DCC (out), 32 VDD (power), 33 PAD (power)
text: nRF52811

## PCA9306DCTR
designator U?  Manufacturer Part Number: PCA9306DCTR
TRNSLTR BIDIRECTIONAL SM8; Manufacturer: Texas Instruments; ComponentLink2URL: http://datasheets.maximintegrated.com/en/ds/MAX31725.pdf; ComponentLink2Description: Datasheet; ComponentLink3URL: http://pdfserv.maximintegrated.com/package_dwgs/21-0137.PDF; ComponentLink3Description: Package Specification; ComponentLink1URL: http://www.maximintegrated.com/; ComponentLink1Description: Manufacturer URL; Supplier: Digikey; Price 1 Unit USD: 0.67; Supplier Part Number: 296-18509-1-ND; Link: https://www.digikey.com/product-detail/en/texas-instruments/PCA9306DCTR/296-18509-1-ND/809938; Price 1000+ Units USD: 0.25
footprint PCA9306DCTR (I2C level shifter)
pins: 1 GND (power), 2 VREF1 (power), 3 SCL1, 4 SDA1, 5 SDA2, 6 SCL2, 7 VREF2 (power), 8 EN

## RAK3172
designator U?
RAK3172 without IPEX connector; Manufacturer: RAK; ComponentLink1Description: Manufacturer URL; ComponentLink2Description: Datasheet; Link: https://store.rakwireless.com/products/wisduo-lpwan-module-rak3172?utm_source=rak3172landingpage&utm_medium=header&utm_campaign=RAKwireless&variant=40014759297222; Price 1000+ Units USD: 6.00; Price 1 Unit USD: 6.00; Manufacturer Part Number: rak3172
footprint RAK3172 (Lorawan Module RAK)
pins: 1 PA3/UART2_RX, 2 PA2/UART2_TX, 3 PA15/ADC5, 4 PB6/UART1_TX, 5 PB7/UART1_RX, 6 PA1, 7 PA13/SWDIO, 8 PA14/SWCLK, 9 PA12/I2C_SCL, 10 PA11/I2C_SDA, 11 GND, 12 RF, 13 PA7/SPI1_MOSI, 14 PA6/SPI1_MISO, 15 PA5/SPI1_CLK, 16 PA4/SPI_NSS, 17 GND, 18 GND, 19 PA8, 20 PA9, 21 BOOT0, 22 RST, 23 GND, 24 VDD, 25 PA10/ADC4, 26 PB2/ADC3, 27 PB12, 28 GND, 29 PA0, 30 PB5, 31 PB4/ADC2, 32 PB3/ADC1

## rgb_LTST-C19HE1WT
designator LED?
LED RGB DIFFUSED CHIP SMD / LED Tri-Color Blue/Green/Red, 5 V, -20 to 80 degC, 4-Pin SMD, RoHS, Tape and Reel; Manufacturer: Lite-On Inc.; Manufacturer Part Number: LTST-C19HE1WT; zz Package: 0606; zz Power Supply Rating: 2.1V Red, 3.35V Green, 3.35V Blue; Supplier: Digikey; Link: https://www.digikey.com/product-detail/en/lite-on-inc/LTST-C19HE1WT/160-2162-1-ND/4866310; Price 1 Unit USD: 0.56; Price 1000+ Units USD: 0.13; Supplier Part Number: 160-2162-1-ND
footprint LTST-C19HE1WT-4_V (SMD, 4-Leads, Body 1.6x1.6mm, Pitch 0.85mm)
pins: 1 R, 2 G, 3 B, 4 A

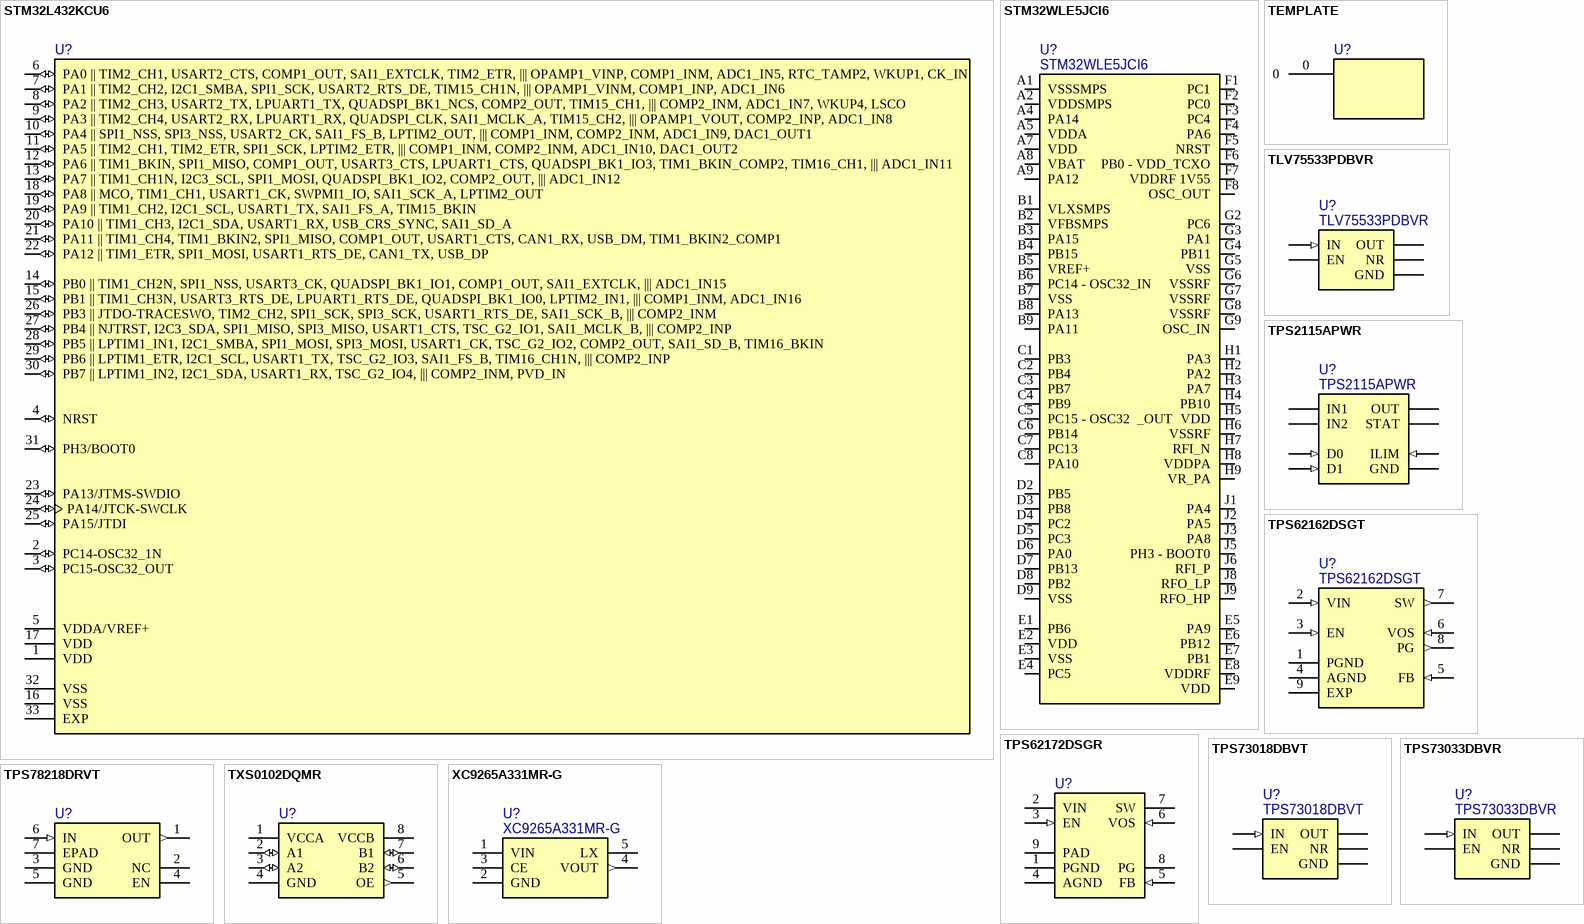
[diagram p2: symbols STM32L432KCU6 to XC9265A331MR-G]

## STM32L432KCU6
designator U?
MCU 32BIT 256KB FLASH 32QFPN; Manufacturer: STMicroelectronics; Manufacturer Part Number: STM32L432KCU6; zz Package: 32-UFQFPN (5x5); Supplier Part Number: 497-16578-ND; Link: https://www.digikey.nl/product-detail/en/stmicroelectronics/STM32L432KCU6/497-16578-ND/6132749; Supplier: Digikey; Price 1 Unit USD: 4.16; Price 1000+ Units USD: 2.19
footprint STM32L432KCU6 (MCU STM L4  5mm)
pins: 1 VDD (power), 2 PC14-OSC32_1N (io), 3 PC15-OSC32_OUT (io), 4 NRST (io), 5 VDDA/VREF+ (power), 6 PA0 || TIM2_CH1, USART2_CTS, COMP1_OUT, SAI1_EXTCLK, TIM2_ETR, ||| OPAMP1_VINP, COMP1_INM, ADC1_IN5, RTC_TAMP2, WKUP1, CK_IN (io), 7 PA1 || TIM2_CH2, I2C1_SMBA, SPI1_SCK, USART2_RTS_DE, TIM15_CH1N, ||| OPAMP1_VINM, COMP1_INP, ADC1_IN6 (io), 8 PA2 || TIM2_CH3, USART2_TX, LPUART1_TX, QUADSPI_BK1_NCS, COMP2_OUT, TIM15_CH1, ||| COMP2_INM, ADC1_IN7, WKUP4, LSCO (io), 9 PA3 || TIM2_CH4, USART2_RX, LPUART1_RX, QUADSPI_CLK, SAI1_MCLK_A, TIM15_CH2, ||| OPAMP1_VOUT, COMP2_INP, ADC1_IN8 (io), 10 PA4 || SPI1_NSS, SPI3_NSS, USART2_CK, SAI1_FS_B, LPTIM2_OUT, ||| COMP1_INM, COMP2_INM, ADC1_IN9, DAC1_OUT1 (io), 11 PA5 || TIM2_CH1, TIM2_ETR, SPI1_SCK, LPTIM2_ETR, ||| COMP1_INM, COMP2_INM, ADC1_IN10, DAC1_OUT2 (io), 12 PA6 || TIM1_BKIN, SPI1_MISO, COMP1_OUT, USART3_CTS, LPUART1_CTS, QUADSPI_BK1_IO3, TIM1_BKIN_COMP2, TIM16_CH1, ||| ADC1_IN11 (io), 13 PA7 || TIM1_CH1N, I2C3_SCL, SPI1_MOSI, QUADSPI_BK1_IO2, COMP2_OUT, ||| ADC1_IN12 (io), 14 PB0 || TIM1_CH2N, SPI1_NSS, USART3_CK, QUADSPI_BK1_IO1, COMP1_OUT, SAI1_EXTCLK, ||| ADC1_IN15 (io), 15 PB1 || TIM1_CH3N, USART3_RTS_DE, LPUART1_RTS_DE, QUADSPI_BK1_IO0, LPTIM2_IN1, ||| COMP1_INM, ADC1_IN16 (io), 16 VSS (power), 17 VDD (power), 18 PA8 || MCO, TIM1_CH1, USART1_CK, SWPMI1_IO, SAI1_SCK_A, LPTIM2_OUT (io), 19 PA9 || TIM1_CH2, I2C1_SCL, USART1_TX, SAI1_FS_A, TIM15_BKIN (io), 20 PA10 || TIM1_CH3, I2C1_SDA, USART1_RX, USB_CRS_SYNC, SAI1_SD_A (io), 21 PA11 || TIM1_CH4, TIM1_BKIN2, SPI1_MISO, COMP1_OUT, USART1_CTS, CAN1_RX, USB_DM, TIM1_BKIN2_COMP1 (io), 22 PA12 || TIM1_ETR, SPI1_MOSI, USART1_RTS_DE, CAN1_TX, USB_DP (io), 23 PA13/JTMS-SWDIO (io), 24 PA14/JTCK-SWCLK (io), 25 PA15/JTDI (io), 26 PB3 || JTDO-TRACESWO, TIM2_CH2, SPI1_SCK, SPI3_SCK, USART1_RTS_DE, SAI1_SCK_B, ||| COMP2_INM (io), 27 PB4 || NJTRST, I2C3_SDA, SPI1_MISO, SPI3_MISO, USART1_CTS, TSC_G2_IO1, SAI1_MCLK_B, ||| COMP2_INP (io), 28 PB5 || LPTIM1_IN1, I2C1_SMBA, SPI1_MOSI, SPI3_MOSI, USART1_CK, TSC_G2_IO2, COMP2_OUT, SAI1_SD_B, TIM16_BKIN (io), 29 PB6 || LPTIM1_ETR, I2C1_SCL, USART1_TX, TSC_G2_IO3, SAI1_FS_B, TIM16_CH1N, ||| COMP2_INP (io), 30 PB7 || LPTIM1_IN2, I2C1_SDA, USART1_RX, TSC_G2_IO4, ||| COMP2_INM, PVD_IN (io), 31 PH3/BOOT0 (io), 32 VSS (power), 33 EXP (power)

## STM32WLE5JCI6
designator U?  Manufacturer Part Number: STM32WLE5JCI6
STM32WL Lora SoC 64KB RAM 256KB Flash; Manufacturer: STMICROELECTRONICS; ComponentLink1Description: Manufacturer URL; ComponentLink2Description: Datasheet; Link: https://uk.farnell.com/stmicroelectronics/stm32wle5jci6/mcu-48mhz-arm-cortex-m4-ufbga/dp/3515810
footprint STM32WL-UFBGA-73 (STM32 LORA UFBGA-73)
pins: A1 VSSSMPS, A2 VDDSMPS, A4 PA14, A5 VDDA, A7 VDD, A8 VBAT, A9 PA12, B1 VLXSMPS, B2 VFBSMPS, B3 PA15, B4 PB15, B5 VREF+, B6 PC14 - OSC32_IN, B7 VSS, B8 PA13, B9 PA11, C1 PB3, C2 PB4, C3 PB7, C4 PB9, C5 PC15 - OSC32  _OUT, C6 PB14, C7 PC13, C8 PA10, D2 PB5, D3 PB8, D4 PC2, D5 PC3, D6 PA0, D7 PB13, D8 PB2, D9 VSS, E1 PB6, E2 VDD, E3 VSS, E4 PC5, E5 PA9, E6 PB12, E7 PB1, E8 VDDRF, E9 VDD, F1 PC1, F2 PC0, F3 PC4, F4 PA6, F5 NRST, F6 PB0 - VDD_TCXO, F7 VDDRF 1V55, F8 OSC_OUT, G2 PC6, G3 PA1, G4 PB11, G5 VSS, G6 VSSRF, G7 VSSRF, G8 VSSRF, G9 OSC_IN, H1 PA3, H2 PA2, H3 PA7, H4 PB10, H5 VDD, H6 VSSRF, H7 RFI_N, H8 VDDPA, H9 VR_PA, J1 PA4, J2 PA5, J3 PA8, J5 PH3 - BOOT0, J6 RFI_P, J8 RFO_LP, J9 RFO_HP

## TEMPLATE
designator U?
pins: 0

## TLV75533PDBVR
designator U?  Manufacturer Part Number: TLV75533PDBVR
REG LINEAR 3.3V 500MA SOT23-5; Manufacturer: Texas Instruments; zz Package: SOT-23-5; zz Power Supply Rating: up to 5.5V; Link: https://www.digikey.nl/product-detail/en/texas-instruments/TLV75533PDBVR/296-50411-1-ND/9685550; Price 1000+ Units USD: 0.19; Supplier: Digikey; Supplier Part Number: 296-50411-1-ND; Price 1 Unit USD: 0.52
footprint TLV75533PDBVRDatasheet
pins: 1 IN (in), 2 GND (power), 3 EN, 4 NR, 5 OUT (power)

## TPS2115APWR
designator U?  Manufacturer Part Number: TPS2115APWR
POWER MUX OR CTRLR SRC SELECT 8TSSOP / Dual In / Single Out Autoswitching Power Mux, 2.8 to 5.5 V, -40 to 85 degC, 8-pin TSSOP (PW), Green (RoHS & no Sb/Br); Manufacturer: Texas Instruments; zz Power Supply Rating: 2.8V to 5.5V; zz Package: 8-TSSOP; ComponentLink1Description: Datasheet; ComponentLink1URL: http://www.ti.com/general/docs/lit/getliterature.tsp?genericPartNumber=TPS2115A&fileType=pdf; Price 1 Unit USD: 2.41; Price 1000+ Units USD: 1.06; Supplier: Digikey; Supplier Part Number: 296-16940-1-ND; Link: https://www.digikey.com/product-detail/en/texas-instruments/TPS2115APWR/296-16940-1-ND/652794
footprint TPS2115A (SOP, 8-Leads, Body 4.5x3.1mm, Pitch 0.65mm, IPC High Density)
pins: 1 STAT (hiz) "STAT is an open-drain output that is Hi-Z if the IN2 switch is ON. STAT pulls low if the IN1 switch is ON or if OUT is Hi-Z (i.e., E\N\ is equal to logic 0).", 2 D0 (in) "TTL- and CMOS-compatible input pin. Each pin has a 1-µA pull-up. Table 1 illustrates the functionality of D0 and D1.", 3 D1 (in) "TTL- and CMOS-compatible input pin. Each pin has a 1-µA pull-up. Table 1 illustrates the functionality of D0 and D1.", 4 ILIM (in) "A resistor RILIM from ILIM to GND sets the current limit IL to 500/RILIM for the TPS2115A", 5 GND (power) "Ground", 6 IN2 (power) "Secondary power switch input. The IN2 switch can be enabled only if the IN2 supply is above the UVLO threshold and at least one supply exceeds the internal VDD UVLO.", 7 OUT (power) "Power switch output", 8 IN1 (power) "Primary power switch input. The IN1 switch can be enabled only if the IN1 supply is above the UVLO threshold and at least one supply exceeds the internal VDD UVLO."

## TPS62162DSGT
designator U?  Manufacturer Part Number: TPS62162DSGT
IC REG BUCK 3.3V 1A 8WSON; Manufacturer: Texas Instruments; ComponentLink1Description: Manufacturer URL; ComponentLink2Description: Datasheet; Link: https://www.digikey.co.uk/product-detail/en/texas-instruments/TPS62162DSGT/296-29897-1-ND/2782627; Supplier Part Number: 296-29897-1-ND; Supplier: Digikey; Price 1000+ Units USD: 0.53; Price 1 Unit USD: 1.40
footprint REG_BUCK_TPS62162DSGT (IC REG BUCK 3.3V 1A 8WSON)
pins: 1 PGND (power), 2 VIN (in), 3 EN (in), 4 AGND (power), 5 FB (in), 6 VOS (in), 7 SW (out), 8 PG (out), 9 EXP

## TPS62172DSGR
designator U?
REG BUCK 3.3V 500MA 8WSON; Manufacturer: Texas Instruments; Manufacturer Part Number: TPS62172DSGR; ComponentLink1Description: Manufacturer URL; ComponentLink2Description: Datasheet; Link: https://www.digikey.com/product-detail/en/texas-instruments/TPS62172DSGR/296-39449-1-ND/5143397; Supplier Part Number: 296-39449-1-ND; Supplier: Digikey; Price 1000+ Units USD: 0.54; Price 1 Unit USD: 1.29
footprint REG_BUCK_TPS62172DSGR (REG BUCK 3.3V 500MA 8WSON)
pins: 1 PGND (power), 2 VIN (power), 3 EN (in), 4 AGND (power), 5 FB (in), 6 VOS (in), 7 SW (power), 8 PG (hiz), 9 PAD (power)

## TPS73018DBVT
designator U?  Manufacturer Part Number: TPS73018DBVT
REG LINEAR 1.8V 200MA SOT23-5; Manufacturer: Texas Instruments; zz Package: SOT-23-5; zz Power Supply Rating: up to 5.5V; Link: https://www.digikey.com/product-detail/en/texas-instruments/TPS73018DBVT/296-17577-1-ND/705374; Price 1000+ Units USD: 0.27; Supplier: Digikey; Supplier Part Number: 296-17577-1-ND; Price 1 Unit USD: 0.82
footprint TPS73018DBVT (IC REG LINEAR 1.8V 200MA SOT23-5)
pins: 1 IN (in), 2 GND (power), 3 EN, 4 NR, 5 OUT (power)

## TPS73033DBVR
designator U?  Manufacturer Part Number: TPS73033DBVR
REG LINEAR 3.3V 200MA SOT23-5; Manufacturer: Texas Instruments; zz Package: SOT-23-5; zz Power Supply Rating: up to 5.5V; Link: https://www.digikey.com/product-detail/en/texas-instruments/TPS73033DBVR/296-17580-1-ND/705377; Price 1000+ Units USD: 0.27; Supplier: Digikey; Supplier Part Number: 296-17580-1-ND; Price 1 Unit USD: 0.71
footprint TPS73033DBV
pins: 1 IN (in), 2 GND (power), 3 EN, 4 NR, 5 OUT (power)

## TPS78218DRVT
designator U?
REG LINEAR 1.8V 150MA 6SON; Manufacturer: Texas Instruments; Manufacturer Part Number: TPS78218DRVT; ComponentLink1Description: Manufacturer URL; ComponentLink2Description: Datasheet; Link: https://www.digikey.com/product-detail/en/texas-instruments/TPS78218DRVT/296-29402-1-ND/2741754; Supplier Part Number: 296-29402-1-ND; Supplier: Digikey; Price 1000+ Units USD: 0.58; Price 1 Unit USD: 0.93
footprint REG_1V8_TPS78218DRVT (REG LINEAR 1.8V 150MA 6SON)
pins: 1 OUT (out), 2 NC, 3 GND (power), 4 EN, 5 GND (power), 6 IN (in), 7 EPAD

## TXS0102DQMR
designator U?
TRNSLTR BIDIRECTIONAL 8X2SON; Manufacturer: Texas Instruments; Manufacturer Part Number: TXS0102DQMR; ComponentLink1Description: Manufacturer URL; ComponentLink2Description: Datasheet; Link: https://www.digikey.com/product-detail/en/texas-instruments/TXS0102DQMR/296-28435-1-ND/2638910; Supplier Part Number: 296-28435-1-ND; Supplier: Digikey; Price 1000+ Units USD: 0.29; Price 1 Unit USD: 0.69
footprint TRANSL_TXS0102DQMR (TRNSLTR Voltage levels BIDIRECTIONAL 8X2SON)
pins: 1 VCCA (power), 2 A1 (io), 3 A2 (io), 4 GND (power), 5 OE (out), 6 B2 (io), 7 B1 (io), 8 VCCB (power)

## XC9265A331MR-G
designator U?  Manufacturer Part Number: XC9265A331MR-G
IC REG BUCK 3.3V 200MA SOT25-5; Manufacturer: Torex Semiconductor Ltd; Link: https://www.digikey.com/en/products/detail/torex-semiconductor-ltd/XC9265A331MR-G/5964781
footprint XC9265A331MR-G (IC REG BUCK 3.3V 200MA SOT25-5)
pins: 1 VIN, 2 GND, 3 CE, 4 VOUT (out), 5 LX